# Altium schematic symbol library Transistor_FET.SchLib: 509 symbols (part 3 of 4)
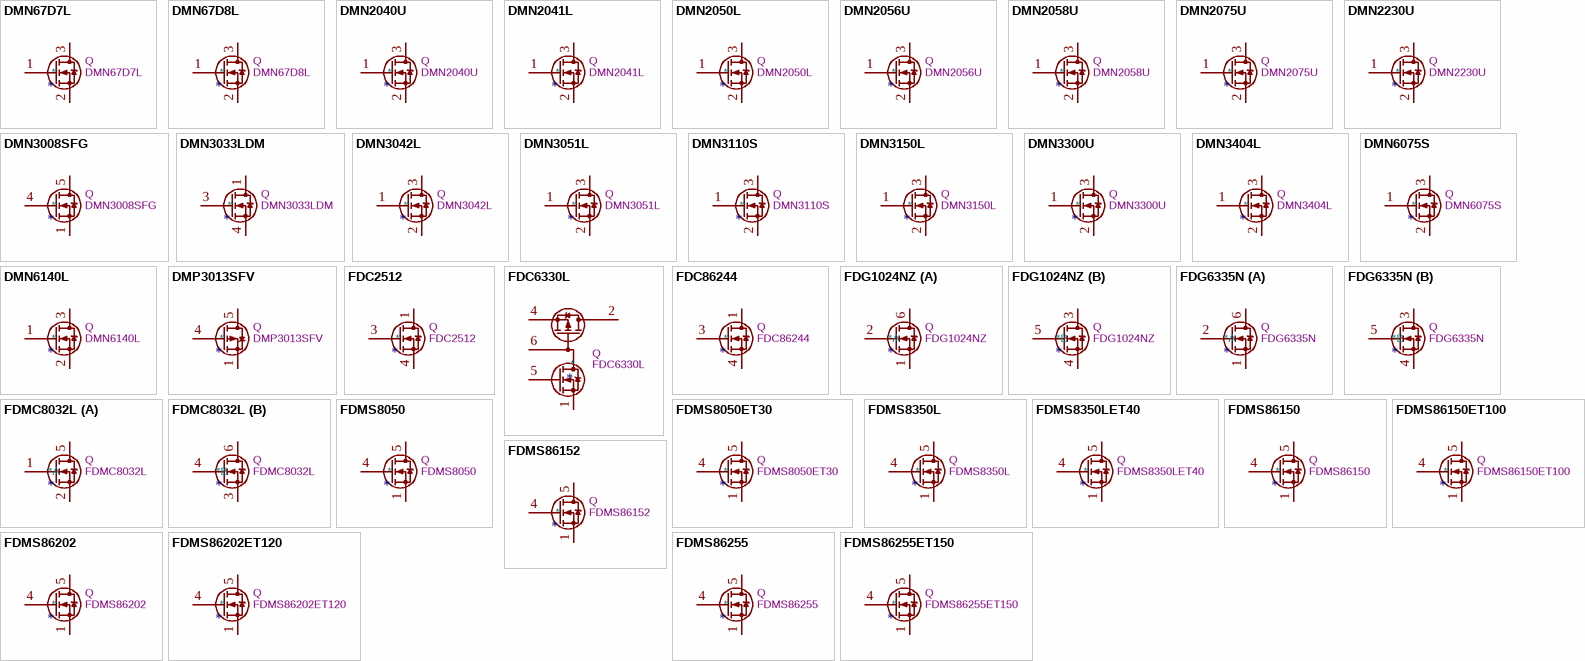
[diagram p15: symbols DMN67D7L to FDMS86255ET150]

## FDMS86255
designator *  value FDMS86255  Reference: Q
ki_keywords: shielded-gate-powertrench-MOSFET MOSFET fairchild; ki_description: 10A Id, 150V Vds, N-Channel Shielded Gate PowerTrench MOSFET, 12.4mOhm Ron, 63nC Qgmax, -55 to 150 °C, 5x6mm SON8; ki_fp_filters: TDSON*; Footprint: Package_TO_SOT_SMD:TDSON-8-1; Datasheet: https://www.onsemi.com/pub/Collateral/FDMS86255-D.pdf
pins: 1 S, 2 S hidden, 3 S hidden, 4 G, 5 D

## FDMS86255ET150
designator *  value FDMS86255ET150  Reference: Q
ki_keywords: shielded-gate-powertrench MOSFET fairchild; ki_description: 10A Id, 150V Vds, N-Channel Shielded Gate PowerTrench MOSFET, 12.4mOhm Ron, 63nC Qgmax, -55 to 175 °C, 5x6mm SON8; ki_fp_filters: TDSON*; Footprint: Package_TO_SOT_SMD:TDSON-8-1; Datasheet: https://www.onsemi.com/pub/Collateral/FDMS86255ET150-D.pdf
pins: 1 S, 2 S hidden, 3 S hidden, 4 G, 5 D

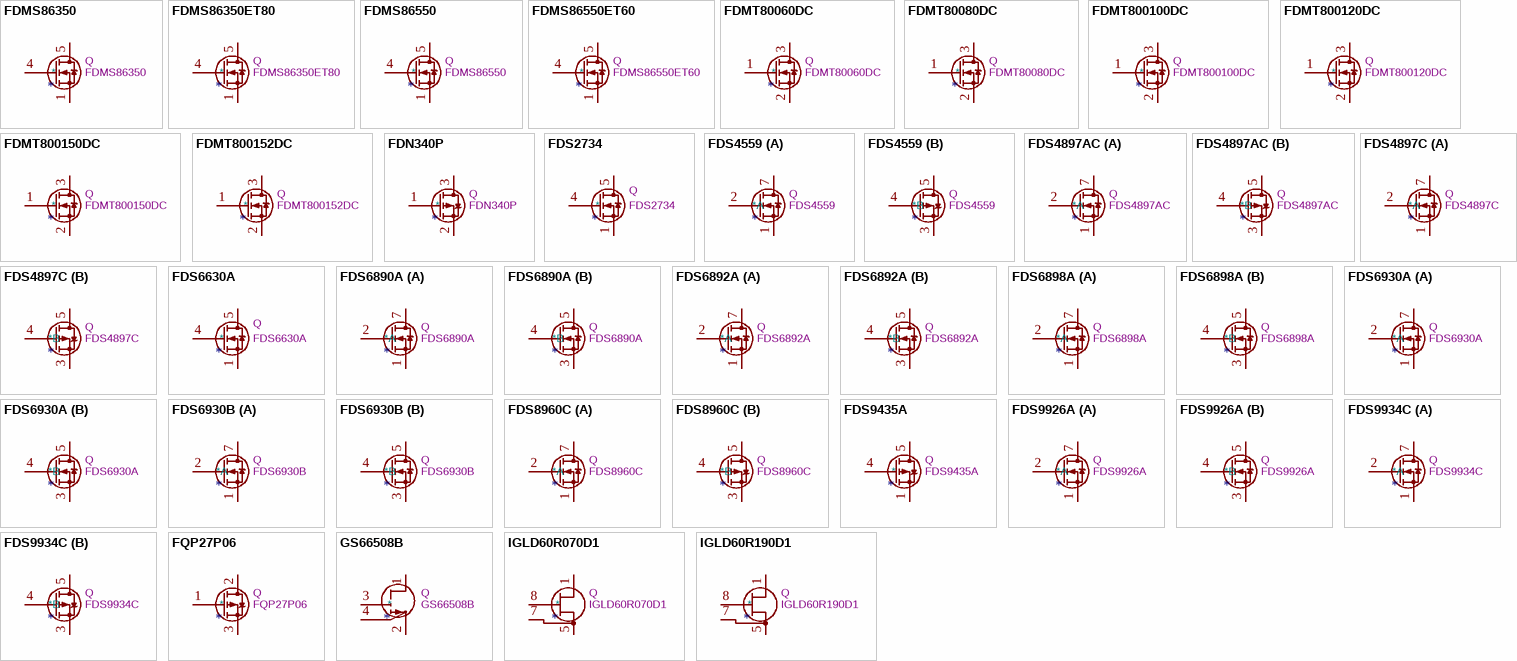
[diagram p7: symbols FDMS86350 to IGLD60R190D1]

## FDMS86350
designator *  value FDMS86350  Reference: Q
ki_keywords: powertrench MOSFET fairchild; ki_description: 25A Id, 80V Vds, N-Channel PowerTrench MOSFET, 2.4mOhm Ron, 155nC Qgmax, -55 to 150 °C, 5x6mm SON8; ki_fp_filters: TDSON*; Footprint: Package_TO_SOT_SMD:TDSON-8-1; Datasheet: https://www.onsemi.com/pub/Collateral/FDMS86350-D.PDF
pins: 1 S, 2 S hidden, 3 S hidden, 4 G, 5 D

## FDMS86350ET80
designator *  value FDMS86350ET80  Reference: Q
ki_keywords: powertrench MOSFET fairchild; ki_description: 25A Id, 80V Vds, N-Channel PowerTrench MOSFET, 2.4mOhm Ron, 155nC Qgmax, -55 to 175 °C, 5x6mm SON8; ki_fp_filters: TDSON*; Footprint: Package_TO_SOT_SMD:TDSON-8-1; Datasheet: https://www.onsemi.com/pub/Collateral/FDMS86350ET80-D.pdf
pins: 1 S, 2 S hidden, 3 S hidden, 4 G, 5 D

## FDMS86550
designator *  value FDMS86550  Reference: Q
ki_keywords: powertrench MOSFET fairchild; ki_description: 32A Id, 60V Vds, N-Channel PowerTrench MOSFET, 1.65mOhm Ron, 154nC Qgmax, -55 to 150 °C, 5x6mm SON8; ki_fp_filters: TDSON*; Footprint: Package_TO_SOT_SMD:TDSON-8-1; Datasheet: https://www.onsemi.com/pub/Collateral/FDMS86550-D.pdf
pins: 1 S, 2 S hidden, 3 S hidden, 4 G, 5 D

## FDMS86550ET60
designator *  value FDMS86550ET60  Reference: Q
ki_keywords: powertrench MOSFET fairchild; ki_description: 32A Id, 60V Vds, N-Channel PowerTrench MOSFET, 1.65mOhm Ron, 154nC Qgmax, -55 to 175 °C, 5x6mm SON8; ki_fp_filters: TDSON*; Footprint: Package_TO_SOT_SMD:TDSON-8-1; Datasheet: https://www.onsemi.com/pub/Collateral/FDMS86550ET60-D.pdf
pins: 1 S, 2 S hidden, 3 S hidden, 4 G, 5 D

## FDMT80060DC
designator *  value FDMT80060DC  Reference: Q
ki_keywords: PowerTrench Power MOSFET N-MOS; ki_description: 43A Id, 60V Vds, PowerTrench N-Channel Power MOSFET, 6.9mOhm Ron, Qg (typ) 7.9nC 8x8mm MLP; ki_fp_filters: PQFN*8x8*; Footprint: Package_TO_SOT_SMD:PQFN_8x8; Datasheet: https://www.onsemi.com/pub/Collateral/FDMT80060DC-D.pdf
pins: 1 G, 2 S, 3 D

## FDMT80080DC
designator *  value FDMT80080DC  Reference: Q
ki_keywords: dual-cool-powertrench MOSFET fairchild; ki_description: 36A Id, 80V Vds, N-Channel Dual Cool PowerTrench MOSFET, 1.35mOhm Ron, 273nC Qgmax, -55 to 150 °C, 8x8mm MLP; ki_fp_filters: PQFN*8x8*; Footprint: Package_TO_SOT_SMD:PQFN_8x8; Datasheet: https://www.onsemi.com/pub/Collateral/FDMT80080DC-D.pdf
pins: 1 G, 2 S, 3 D

## FDMT800100DC
designator *  value FDMT800100DC  Reference: Q
ki_keywords: dual-cool-powertrench MOSFET fairchild; ki_description: 24A Id, 100V Vds, N-Channel Dual Cool PowerTrench MOSFET, 2.95mOhm Ron, 111nC Qgmax, -55 to 150 °C, 8x8mm MLP; ki_fp_filters: PQFN*8x8*; Footprint: Package_TO_SOT_SMD:PQFN_8x8; Datasheet: https://www.onsemi.com/pub/Collateral/FDMT800100DC-D.pdf
pins: 1 G, 2 S, 3 D

## FDMT800120DC
designator *  value FDMT800120DC  Reference: Q
ki_keywords: dual-cool-powertrench MOSFET fairchild; ki_description: 20A Id, 120V Vds, N-Channel Dual cool 88 PowerTrench MOSFET, 4.2mOhm Ron, 107nC Qgmax, -55 to 150 °C, 8x8mm MLP; ki_fp_filters: PQFN*8x8*; Footprint: Package_TO_SOT_SMD:PQFN_8x8; Datasheet: https://www.onsemi.com/pub/Collateral/FDMT800120DC-D.pdf
pins: 1 G, 2 S, 3 D

## FDMT800150DC
designator *  value FDMT800150DC  Reference: Q
ki_keywords: dual-cool-powertrench MOSFET fairchild; ki_description: 15A Id, 150V Vds, N-Channel Dual cool PowerTrench MOSFET, 6.5mOhm Ron, 108nC Qgmax, -55 to 150 °C, 8x8mm MLP; ki_fp_filters: PQFN*8x8*; Footprint: Package_TO_SOT_SMD:PQFN_8x8; Datasheet: https://www.onsemi.com/pub/Collateral/FDMT800150DC-D.pdf
pins: 1 G, 2 S, 3 D

## FDMT800152DC
designator *  value FDMT800152DC  Reference: Q
ki_keywords: dual-cool-powertrench MOSFET fairchild; ki_description: 13A Id, 150V Vds, N-Channel Dual Cool PowerTrench MOSFET, 9.0mOhm Ron, 83nC Qgmax, -55 to 150 °C, 8x8mm MLP; ki_fp_filters: PQFN*8x8*; Footprint: Package_TO_SOT_SMD:PQFN_8x8; Datasheet: https://www.onsemi.com/pub/Collateral/FDMT800152DC-D.pdf
pins: 1 G, 2 S, 3 D

## FDN340P
designator *  value FDN340P  Reference: Q
ki_keywords: P-Channel MOSFET; ki_description: 2A Id, 20V Vds, P-Channel MOSFET, 70mOhm Ron, SOT-23; ki_fp_filters: SOT?23*; Footprint: Package_TO_SOT_SMD:SOT-23; Datasheet: https://www.onsemi.com/pub/Collateral/FDN340P-D.PDF
pins: 1 G, 2 S, 3 D

## FDS2734
designator *  value FDS2734  Reference: Q
ki_keywords: N-Channel MOSFET; ki_description: 3.0A Id, 250V Vds, N-Channel MOSFET, 117mOhm Ron, SOIC-8; ki_fp_filters: SOIC*3.9x4.9mm*P1.27mm*; Footprint: Package_SO:SOIC-8_3.9x4.9mm_P1.27mm; Datasheet: http://www.onsemi.com/pub/Collateral/FDS2734-D.pdf
pins: 1 S, 2 S hidden, 3 S hidden, 4 G, 5 D, 6 D hidden, 7 D hidden, 8 D hidden

## FDS4559
designator *  value FDS4559  Reference: Q
ki_keywords: Dual N-Channel P-Channel MOSFET; ki_description: 4.5A Id, 60V Vds, Dual N and P Channel MOSFET, 55mOhm Ron, 10V Vgs, SO8L; ki_fp_filters: SOIC*3.9x4.9mm*P1.27mm*; Footprint: Package_SO:SOIC-8_3.9x4.9mm_P1.27mm; Datasheet: https://www.onsemi.com/pub/Collateral/FDS4559-D.PDF
part A pins: 1 S, 2 G, 7 D, 8 D hidden
part B pins: 3 1, 4 G, 5 D, 6 D hidden

## FDS4897AC
designator *  value FDS4897AC  Reference: Q
ki_keywords: Dual N-Channel P-Channel MOSFET; ki_description: 6.1A Id, 40V Vds, Dual N and P Channel MOSFET, 26mOhm Ron, 10V Vgs, SO8L; ki_fp_filters: SOIC*3.9x4.9mm*P1.27mm*; Footprint: Package_SO:SOIC-8_3.9x4.9mm_P1.27mm; Datasheet: https://www.onsemi.com/pub/Collateral/FDS4897AC-D.pdf
part A pins: 1 S, 2 G, 7 D, 8 D hidden
part B pins: 3 1, 4 G, 5 D, 6 D hidden

## FDS4897C
designator *  value FDS4897C  Reference: Q
ki_keywords: Dual N-Channel P-Channel MOSFET; ki_description: 6.2A Id, 40V Vds, Dual N and P Channel MOSFET, 29mOhm Ron, 10V Vgs, SO8L; ki_fp_filters: SOIC*3.9x4.9mm*P1.27mm*; Footprint: Package_SO:SOIC-8_3.9x4.9mm_P1.27mm; Datasheet: https://www.onsemi.com/pub/Collateral/FDS4897C-D.pdf
part A pins: 1 S, 2 G, 7 D, 8 D hidden
part B pins: 3 1, 4 G, 5 D, 6 D hidden

## FDS6630A
designator *  value FDS6630A  Reference: Q
ki_keywords: N-Channel MOSFET; ki_description: 6.5A Id, 30V Vds, N-Channel MOSFET, 38mOhm Ron, SOIC-8; ki_fp_filters: SOIC*3.9x4.9mm*P1.27mm*; Footprint: Package_SO:SOIC-8_3.9x4.9mm_P1.27mm; Datasheet: http://www.onsemi.com/pub/Collateral/FDS6630A-D.pdf
pins: 1 S, 2 S hidden, 3 S hidden, 4 G, 5 D, 6 D hidden, 7 D hidden, 8 D hidden

## FDS6890A
designator *  value FDS6890A  Reference: Q
ki_keywords: Dual N-Channel MOSFET; ki_description: 7.5A Id, 20V Vds, Dual N-Channel MOSFET, 18mOhm Ron, SO-8; ki_fp_filters: SOIC*3.9x4.9mm*P1.27mm*; Footprint: Package_SO:SOIC-8_3.9x4.9mm_P1.27mm; Datasheet: https://www.onsemi.com/pub/Collateral/FDS6890A-D.PDF
part A pins: 1 S1, 2 G1, 7 D1, 8 D1 hidden
part B pins: 3 S2, 4 G2, 5 D2, 6 D2 hidden

## FDS6892A
designator *  value FDS6892A  Reference: Q
ki_keywords: Dual N-Channel MOSFET Low Gate Charge; ki_description: 7.5A Id, 20V Vds, Dual N-Channel MOSFET PWM Optimized, 18mOhm Ron, SO-8; ki_fp_filters: SOIC*3.9x4.9mm*P1.27mm*; Footprint: Package_SO:SOIC-8_3.9x4.9mm_P1.27mm; Datasheet: https://www.onsemi.com/pub/Collateral/FDS6892A-D.pdf
part A pins: 1 S1, 2 G1, 7 D1, 8 D1 hidden
part B pins: 3 S2, 4 G2, 5 D2, 6 D2 hidden

## FDS6898A
designator *  value FDS6898A  Reference: Q
ki_keywords: Dual N-Channel MOSFET; ki_description: 9.4A Id, 20V Vds, Dual N-Channel MOSFET, 14mOhm Ron, SO-8; ki_fp_filters: SOIC*3.9x4.9mm*P1.27mm*; Footprint: Package_SO:SOIC-8_3.9x4.9mm_P1.27mm; Datasheet: https://www.onsemi.com/pub/Collateral/FDS6898A-D.PDF
part A pins: 1 S1, 2 G1, 7 D1, 8 D1 hidden
part B pins: 3 S2, 4 G2, 5 D2, 6 D2 hidden

## FDS6930A
designator *  value FDS6930A  Reference: Q
ki_keywords: Dual N-Channel MOSFET; ki_description: 5.5A Id, 30V Vds, Dual N-Channel Logic Level MOSFET, 40mOhm Ron, SO-8; ki_fp_filters: SOIC*3.9x4.9mm*P1.27mm*; Footprint: Package_SO:SOIC-8_3.9x4.9mm_P1.27mm; Datasheet: http://www.onsemi.com/pub/Collateral/FDS6930A-D.PDF
part A pins: 1 S1, 2 G1, 7 D1, 8 D1 hidden
part B pins: 3 S2, 4 G2, 5 D2, 6 D2 hidden

## FDS6930B
designator *  value FDS6930B  Reference: Q
ki_keywords: Dual N-Channel MOSFET; ki_description: 5.5A Id, 30V Vds, Dual N-Channel Logic Level MOSFET, 38mOhm Ron, SO-8; ki_fp_filters: SOIC*3.9x4.9mm*P1.27mm*; Footprint: Package_SO:SOIC-8_3.9x4.9mm_P1.27mm; Datasheet: http://www.onsemi.com/pub/Collateral/FDS6930B-D.PDF
part A pins: 1 S1, 2 G1, 7 D1, 8 D1 hidden
part B pins: 3 S2, 4 G2, 5 D2, 6 D2 hidden

## FDS8960C
designator *  value FDS8960C  Reference: Q
ki_keywords: Dual N-Channel P-Channel MOSFET; ki_description: 7A Id, 35V Vds, Dual N and P Channel MOSFET, 24mOhm Ron, 10V Vgs, SO8L; ki_fp_filters: SOIC*3.9x4.9mm*P1.27mm*; Footprint: Package_SO:SOIC-8_3.9x4.9mm_P1.27mm; Datasheet: https://www.mouser.fr/datasheet/2/308/FDS8960C-D-1808807.pdf
part A pins: 1 S, 2 G, 7 D, 8 D hidden
part B pins: 3 1, 4 G, 5 D, 6 D hidden

## FDS9435A
designator *  value FDS9435A  Reference: Q
ki_keywords: P-Channel MOSFET; ki_description: -5.3A Id, -30V Vds, P-Channel MOSFET, 50mOhm Ron, SO-8; ki_fp_filters: SOIC*3.9x4.9mm*P1.27mm*; Footprint: Package_SO:SOIC-8_3.9x4.9mm_P1.27mm; Datasheet: https://www.onsemi.com/pub/Collateral/FDS9435A-D.PDF
pins: 1 S, 2 S hidden, 3 S hidden, 4 G, 5 D, 6 D hidden, 7 D hidden, 8 D hidden

## FDS9926A
designator *  value FDS9926A  Reference: Q
ki_keywords: Dual N-Channel MOSFET; ki_description: 6.5A Id, 20V Vds, Dual N-Channel MOSFET, 30mOhm Ron, SO-8; ki_fp_filters: SOIC*3.9x4.9mm*P1.27mm*; Footprint: Package_SO:SOIC-8_3.9x4.9mm_P1.27mm; Datasheet: https://www.onsemi.com/pub/Collateral/FDS9926A-D.pdf
part A pins: 1 S1, 2 G1, 7 D1, 8 D1 hidden
part B pins: 3 S2, 4 G2, 5 D2, 6 D2 hidden

## FDS9934C
designator *  value FDS9934C  Reference: Q
ki_keywords: Dual N-Channel P-Channel MOSFET; ki_description: 6.5A Id, 20V Vds, Dual N and P Channel MOSFET, 30mOhm Ron, 4.5V Vgs, SO8L; ki_fp_filters: SOIC*3.9x4.9mm*P1.27mm*; Footprint: Package_SO:SOIC-8_3.9x4.9mm_P1.27mm; Datasheet: https://www.onsemi.com/pub/Collateral/FDS9934C-D.pdf
part A pins: 1 S, 2 G, 7 D, 8 D hidden
part B pins: 3 1, 4 G, 5 D, 6 D hidden

## FQP27P06
designator *  value FQP27P06  Reference: Q
ki_keywords: QFET P-Channel MOSFET; ki_description: -27A Id, -60V Vds, QFET P-Channel MOSFET, TO-220; ki_fp_filters: TO?220*; Footprint: Package_TO_SOT_THT:TO-220-3_Vertical; Datasheet: https://www.onsemi.com/pub/Collateral/FQP27P06-D.PDF
pins: 1 G, 2 D, 3 S

## GS66508B
designator *  value GS66508B  Reference: Q
ki_keywords: gan hemt bottom side cooled 650v enhancement mode 30a Id; ki_description: Bottom-side cooled 650 V E-mode GaN transistor, 30A Id, GaN_PX; ki_fp_filters: GaN?Systems?GaNPX*7x8.4mm*; Footprint: Transistor_Power:GaN_Systems_GaNPX-4_7x8.4mm; Datasheet: https://gansystems.com/wp-content/uploads/2020/04/GS66508B-DS-Rev-200402.pdf
pins: 1 D, 2 S, 3 G, 4 SS

## IGLD60R070D1
designator *  value IGLD60R070D1  Reference: Q
ki_keywords: N-Channel GaN MOSFET; ki_description: 15A Id, 600V Vds, 70mOhm, N-Channel GaN MOSFET, LSON-8; ki_fp_filters: Infineon*PG*LSON*1*; Footprint: Package_SON:Infineon_PG-LSON-8-1; Datasheet: https://www.infineon.com/dgdl/Infineon-IGLD60R070D1-DataSheet-v02_00-EN.pdf?fileId=5546d46265f064ff016685f03f056511
pins: 1 D, 2 D hidden, 3 D hidden, 4 D hidden, 5 S, 6 S hidden, 7 SS, 8 G, 9 S hidden

## IGLD60R190D1
designator *  value IGLD60R190D1  Reference: Q
ki_keywords: N-Channel GaN MOSFET; ki_description: 10A Id, 600V Vds, 190mOhm, N-Channel GaN MOSFET, LSON-8; ki_fp_filters: Infineon*PG*LSON*1*; Footprint: Package_SON:Infineon_PG-LSON-8-1; Datasheet: https://www.infineon.com/dgdl/Infineon-IGLD60R190D1-DataSheet-v02_00-EN.pdf?fileId=5546d46269e1c019016a6d78ff5e2aba
pins: 1 D, 2 D hidden, 3 D hidden, 4 D hidden, 5 S, 6 S hidden, 7 SS, 8 G, 9 S hidden

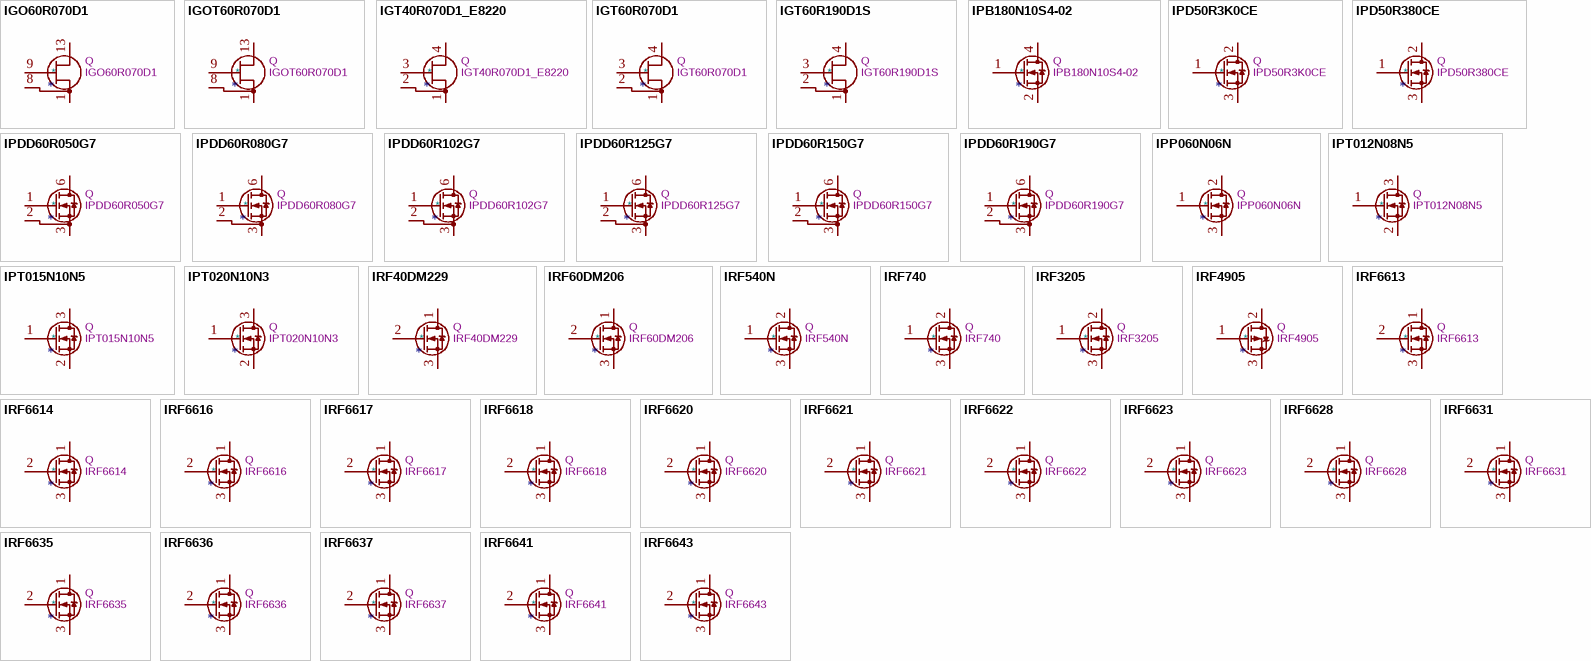
[diagram p8: symbols IGO60R070D1 to IRF6643]

## IGO60R070D1
designator *  value IGO60R070D1  Reference: Q
ki_keywords: N-Channel GaN MOSFET; ki_description: 31A Id, 600V Vds, 70mOhm, N-Channel GaN MOSFET, PD-DSO-20-85; ki_fp_filters: Infineon*PG*DSO*85*; Footprint: Package_SO:Infineon_PG-DSO-20-85; Datasheet: https://www.infineon.com/dgdl/Infineon-IGO60R070D1-DataSheet-v02_01-EN.pdf?fileId=5546d46265f064ff016685f053216514
pins: 1 S, 2 S hidden, 3 S hidden, 4 S hidden, 5 S hidden, 6 S hidden, 7 S hidden, 8 SS, 9 G, 10 G hidden, 13 D, 14 D hidden, 15 D hidden, 16 D hidden, 17 D hidden, 18 D hidden, 21 S hidden

## IGOT60R070D1
designator *  value IGOT60R070D1  Reference: Q
ki_keywords: N-Channel GaN MOSFET; ki_description: 31A Id, 600V Vds, 70mOhm, N-Channel GaN MOSFET, PD-DSO-20-87; ki_fp_filters: Infineon*PG*DSO*87*; Footprint: Package_SO:Infineon_PG-DSO-20-87; Datasheet: https://www.infineon.com/dgdl/Infineon-IGOT60R070D1-DataSheet-v02_11-EN.pdf?fileId=5546d46265f064ff016685fa65066523
pins: 1 S, 2 S hidden, 3 S hidden, 4 S hidden, 5 S hidden, 6 S hidden, 7 S hidden, 8 SS, 9 G, 10 G hidden, 13 D, 14 D hidden, 15 D hidden, 16 D hidden, 17 D hidden, 18 D hidden

## IGT40R070D1_E8220
designator *  value IGT40R070D1_E8220  Reference: Q
ki_keywords: N-Channel GaN MOSFET; ki_description: 31A Id, 400V Vds, 70mOhm, N-Channel GaN MOSFET, HSOF-8; ki_fp_filters: Infineon*PG*HSOF*3*; Footprint: Package_TO_SOT_SMD:Infineon_PG-HSOF-8-3_ThermalVias; Datasheet: https://www.infineon.com/dgdl/Infineon-IGT40R070D1%20E8220-DataSheet-v02_00-EN.pdf?fileId=5546d4626afcd350016b269dd8f34ec4
pins: 1 S, 2 SS, 3 G, 4 D

## IGT60R070D1
designator *  value IGT60R070D1  Reference: Q
ki_keywords: N-Channel GaN MOSFET; ki_description: 31A Id, 600V Vds, 70mOhm, N-Channel GaN MOSFET, HSOF-8; ki_fp_filters: Infineon*PG*HSOF*3*; Footprint: Package_TO_SOT_SMD:Infineon_PG-HSOF-8-3_ThermalVias; Datasheet: https://www.infineon.com/dgdl/Infineon-IGT60R070D1-DataSheet-v02_01-EN.pdf?fileId=5546d46265f064ff016686028dd56526
pins: 1 S, 2 SS, 3 G, 4 D

## IGT60R190D1S
designator *  value IGT60R190D1S  Reference: Q
ki_keywords: N-Channel GaN MOSFET; ki_description: 12.5A Id, 600V Vds, 190mOhm, N-Channel GaN MOSFET, HSOF-8; ki_fp_filters: Infineon*PG*HSOF*3*; Footprint: Package_TO_SOT_SMD:Infineon_PG-HSOF-8-3_ThermalVias; Datasheet: https://www.infineon.com/dgdl/Infineon-IGT60R190D1S-DataSheet-v03_01-EN.pdf?fileId=5546d46265f064ff016685fa29796520
pins: 1 S, 2 SS, 3 G, 4 D

## IPB180N10S4-02
designator *  value IPB180N10S4-02  Reference: Q
ki_keywords: OptiMOS-T2 Power MOSFET N-MOS; ki_description: 180A Id, 100V Vds, OptiMOS-T2 N-Channel Power MOSFET, 2.5mOhm Ron, Qg (typ) 156nC, TO-263-6; ki_fp_filters: TO?263?6*; Footprint: Package_TO_SOT_SMD:TO-263-6; Datasheet: https://www.infineon.com/dgdl/Infineon-IPB180N10S4_02-DS-v01_00-en.pdf?fileId=db3a30433d1d0bbe013d2129cf8a2f88
pins: 1 G, 2 S, 3 S hidden, 4 D, 5 S hidden, 6 S hidden, 7 S hidden

## IPD50R3K0CE
designator *  value IPD50R3K0CE  Reference: Q
ki_keywords: CoolMOS Power MOSFET N-MOS; ki_description: 1.7A Id, 500V Vds, CoolMOS N-Channel Power MOSFET, 3Ohm Ron, 4.3nC Qg (typ), TO-252-2; ki_fp_filters: TO?252*; Footprint: Package_TO_SOT_SMD:TO-252-2; Datasheet: https://www.infineon.com/dgdl/IPx50R3K0CE_2_0.pdf?folderId=db3a3043163797a6011637d4bae7003b&fileId=db3a304339dcf4b10139e7e9ff592ce4
pins: 1 G, 2 D, 3 S

## IPD50R380CE
designator *  value IPD50R380CE  Reference: Q
ki_keywords: CoolMOS Power MOSFET N-MOS; ki_description: 14.1A Id, 500V Vds, CoolMOS N-Channel Power MOSFET, 380mOhm Ron, 24.8nC Qg (typ), TO-252-2; ki_fp_filters: TO?252*; Footprint: Package_TO_SOT_SMD:TO-252-2; Datasheet: https://www.infineon.com/dgdl/Infineon-IPD50R380CE-DS-v02_01-en.pdf?fileId=db3a30433ecb86d4013ed0a2ef580f38
pins: 1 G, 2 D, 3 S

## IPDD60R050G7
designator *  value IPDD60R050G7  Reference: Q
ki_keywords: N-Channel MOSFET; ki_description: 47A Id, 600V Vds, 50mOhm, N-Channel MOSFET, CoolMOS G7, PG-HDSOP-10-1 (DDPAK); ki_fp_filters: Infineon*PG*HDSOP*; Footprint: Package_TO_SOT_SMD:Infineon_PG-HDSOP-10-1; Datasheet: https://www.infineon.com/dgdl/Infineon-IPDD60R050G7-DS-v02_00-EN.pdf?fileId=5546d4626102d35a0161707eb2f97810
pins: 1 G, 2 DS, 3 PS, 4 PS hidden, 5 PS hidden, 6 D, 7 D hidden, 8 D hidden, 9 D hidden, 10 D hidden

## IPDD60R080G7
designator *  value IPDD60R080G7  Reference: Q
ki_keywords: N-Channel MOSFET; ki_description: 29A Id, 600V Vds, 80mOhm, N-Channel MOSFET, CoolMOS G7, PG-HDSOP-10-1 (DDPAK); ki_fp_filters: Infineon*PG*HDSOP*; Footprint: Package_TO_SOT_SMD:Infineon_PG-HDSOP-10-1; Datasheet: https://www.infineon.com/dgdl/Infineon-IPDD60R080G7-DS-v02_00-EN.pdf?fileId=5546d4626102d35a016170882f757a07
pins: 1 G, 2 DS, 3 PS, 4 PS hidden, 5 PS hidden, 6 D, 7 D hidden, 8 D hidden, 9 D hidden, 10 D hidden

## IPDD60R102G7
designator *  value IPDD60R102G7  Reference: Q
ki_keywords: N-Channel MOSFET; ki_description: 23A Id, 600V Vds, 102mOhm, N-Channel MOSFET, CoolMOS G7, PG-HDSOP-10-1 (DDPAK); ki_fp_filters: Infineon*PG*HDSOP*; Footprint: Package_TO_SOT_SMD:Infineon_PG-HDSOP-10-1; Datasheet: https://www.infineon.com/dgdl/Infineon-IPDD60R102G7-DS-v02_00-EN.pdf?fileId=5546d4626102d35a01617087ee7379ed
pins: 1 G, 2 DS, 3 PS, 4 PS hidden, 5 PS hidden, 6 D, 7 D hidden, 8 D hidden, 9 D hidden, 10 D hidden

## IPDD60R125G7
designator *  value IPDD60R125G7  Reference: Q
ki_keywords: N-Channel MOSFET; ki_description: 20A Id, 600V Vds, 125mOhm, N-Channel MOSFET, CoolMOS G7, PG-HDSOP-10-1 (DDPAK); ki_fp_filters: Infineon*PG*HDSOP*; Footprint: Package_TO_SOT_SMD:Infineon_PG-HDSOP-10-1; Datasheet: https://www.infineon.com/dgdl/Infineon-IPDD60R125G7-DS-v02_00-EN.pdf?fileId=5546d4626102d35a0161706cba27778f
pins: 1 G, 2 DS, 3 PS, 4 PS hidden, 5 PS hidden, 6 D, 7 D hidden, 8 D hidden, 9 D hidden, 10 D hidden

## IPDD60R150G7
designator *  value IPDD60R150G7  Reference: Q
ki_keywords: N-Channel MOSFET; ki_description: 16A Id, 600V Vds, 150mOhm, N-Channel MOSFET, CoolMOS G7, PG-HDSOP-10-1 (DDPAK); ki_fp_filters: Infineon*PG*HDSOP*; Footprint: Package_TO_SOT_SMD:Infineon_PG-HDSOP-10-1; Datasheet: https://www.infineon.com/dgdl/Infineon-IPDD60R150G7-DS-v02_00-EN.pdf?fileId=5546d4626102d35a016170806aa57863
pins: 1 G, 2 DS, 3 PS, 4 PS hidden, 5 PS hidden, 6 D, 7 D hidden, 8 D hidden, 9 D hidden, 10 D hidden

## IPDD60R190G7
designator *  value IPDD60R190G7  Reference: Q
ki_keywords: N-Channel MOSFET; ki_description: 13A Id, 600V Vds, 190mOhm, N-Channel MOSFET, CoolMOS G7, PG-HDSOP-10-1 (DDPAK); ki_fp_filters: Infineon*PG*HDSOP*; Footprint: Package_TO_SOT_SMD:Infineon_PG-HDSOP-10-1; Datasheet: https://www.infineon.com/dgdl/Infineon-IPDD60R190G7-DS-v02_00-EN.pdf?fileId=5546d4626102d35a01617087dc0f79ea
pins: 1 G, 2 DS, 3 PS, 4 PS hidden, 5 PS hidden, 6 D, 7 D hidden, 8 D hidden, 9 D hidden, 10 D hidden

## IPP060N06N
designator *  value IPP060N06N  Reference: Q
ki_keywords: N-Channel Power MOSFET Infineon; ki_description: 45A Id, 60V Vds, Single N-Channel Power MOSFET, 6mOhm Ron, TO-220; ki_fp_filters: TO?220*; Footprint: Package_TO_SOT_THT:TO-220-3_Vertical; Datasheet: https://www.infineon.com/dgdl/Infineon-IPP060N06N-DS-v02_02-en.pdf?fileId=db3a30433727a44301372c06d9d7498a
pins: 1 G, 2 D, 3 S

## IPT012N08N5
designator *  value IPT012N08N5  Reference: Q
ki_keywords: OptiMOS Power MOSFET N-MOS; ki_description: 300A Id, 80V Vds, OptiMOS N-Channel Power MOSFET, 1.2mOhm Ron, Qg (typ) 178.0nC, PG-HSOF-8; ki_fp_filters: Infineon*PG*HSOF*; Footprint: Package_TO_SOT_SMD:Infineon_PG-HSOF-8-1; Datasheet: http://www.infineon.com/dgdl/Infineon-IPT012N08N5-DS-v02_01-EN.pdf?fileId=5546d4624a75e5f1014aca59127a1eb9
pins: 1 G, 2 S, 3 D

## IPT015N10N5
designator *  value IPT015N10N5  Reference: Q
ki_keywords: OptiMOS Power MOSFET N-MOS; ki_description: 300A Id, 100V Vds, OptiMOS N-Channel Power MOSFET, 1.5mOhm Ron, Qg (typ) 169.0nC, PG-HSOF-8; ki_fp_filters: Infineon*PG*HSOF*; Footprint: Package_TO_SOT_SMD:Infineon_PG-HSOF-8-1; Datasheet: http://www.infineon.com/dgdl/Infineon-IPT015N10N5-DS-v02_01-EN.pdf?fileId=5546d4624a75e5f1014ac94680661aff
pins: 1 G, 2 S, 3 D

## IPT020N10N3
designator *  value IPT020N10N3  Reference: Q
ki_keywords: OptiMOS Power MOSFET N-MOS; ki_description: 300A Id, 100V Vds, OptiMOS N-Channel Power MOSFET, 2.0mOhm Ron, Qg (typ) 156.0nC, PG-HSOF-8; ki_fp_filters: Infineon*PG*HSOF*; Footprint: Package_TO_SOT_SMD:Infineon_PG-HSOF-8-1; Datasheet: http://www.infineon.com/dgdl/Infineon-IPT020N10N3-DS-v02_00-en.pdf?fileId=db3a30433e9d5d11013e9e58035b0158
pins: 1 G, 2 S, 3 D

## IRF40DM229
designator *  value IRF40DM229  Reference: Q
ki_keywords: N-Channel MOSFET; ki_description: 159A Id, 40V Vds, 1.85mOhm Rds, N-Channel MOSFET, DirectFET MF; ki_fp_filters: DirectFET*MF*; Footprint: Package_DirectFET:DirectFET_MF; Datasheet: https://www.infineon.com/dgdl/Infineon-IRF40DM229-DS-v02_00-EN.pdf?fileId=5546d462557e6e890155a15c899160ea
pins: 1 D, 2 G, 3 S

## IRF60DM206
designator *  value IRF60DM206  Reference: Q
ki_keywords: N-Channel MOSFET; ki_description: 130A Id, 60V Vds, 2.9mOhm Rds, N-Channel MOSFET, DirectFET ME; ki_fp_filters: DirectFET*ME*; Footprint: Package_DirectFET:DirectFET_ME; Datasheet: https://www.infineon.com/dgdl/irf60dm206.pdf?fileId=5546d462533600a4015355e433aa19ca
pins: 1 D, 2 G, 3 S

## IRF540N
designator *  value IRF540N  Reference: Q
ki_keywords: HEXFET N-Channel MOSFET; ki_description: 33A Id, 100V Vds, HEXFET N-Channel MOSFET, TO-220; ki_fp_filters: TO?220*; Footprint: Package_TO_SOT_THT:TO-220-3_Vertical; Datasheet: http://www.irf.com/product-info/datasheets/data/irf540n.pdf
pins: 1 G, 2 D, 3 S

## IRF740
designator *  value IRF740  Reference: Q
ki_keywords: N Channel; ki_description: 10A Id, 400V Vds, N-Channel Power MOSFET, 500mOhm Rds, TO-220AB; ki_fp_filters: TO?220*; Footprint: Package_TO_SOT_THT:TO-220-3_Vertical; Datasheet: http://www.vishay.com/docs/91054/91054.pdf
pins: 1 G, 2 D, 3 S

## IRF3205
designator *  value IRF3205  Reference: Q
ki_keywords: Single N-Channel HEXFET Power MOSFET; ki_description: 110A Id, 55V Vds, Single N-Channel HEXFET Power MOSFET, 8mOhm Ron, TO-220AB; ki_fp_filters: TO?220*; Footprint: Package_TO_SOT_THT:TO-220-3_Vertical; Datasheet: http://www.irf.com/product-info/datasheets/data/irf3205.pdf
pins: 1 G, 2 D, 3 S

## IRF4905
designator *  value IRF4905  Reference: Q
ki_keywords: Single P-Channel HEXFET Power MOSFET; ki_description: -74A Id, -55V Vds, Single P-Channel HEXFET Power MOSFET, 20mOhm Ron, TO-220AB; ki_fp_filters: TO?220*; Footprint: Package_TO_SOT_THT:TO-220-3_Vertical; Datasheet: http://www.infineon.com/dgdl/irf4905.pdf?fileId=5546d462533600a4015355e32165197c
pins: 1 G, 2 D, 3 S

## IRF6613
designator *  value IRF6613  Reference: Q
ki_keywords: N-Channel MOSFET; ki_description: 150A Id, 40V Vds, 3.4mOhm Rds, N-Channel MOSFET, DirectFET MT; ki_fp_filters: DirectFET*MT*; Footprint: Package_DirectFET:DirectFET_MT; Datasheet: https://www.infineon.com/dgdl/irf6613pbf.pdf?fileId=5546d462533600a4015355e82b9b1a0d
pins: 1 D, 2 G, 3 S

## IRF6614
designator *  value IRF6614  Reference: Q
ki_keywords: N-Channel MOSFET; ki_description: 12.7A Id, 40V Vds, 8.3mOhm Rds, N-Channel MOSFET, DirectFET ST; ki_fp_filters: DirectFET*ST*; Footprint: Package_DirectFET:DirectFET_ST; Datasheet: https://www.infineon.com/dgdl/irf6614pbf.pdf?fileId=5546d462533600a4015355e8346c1a0f
pins: 1 D, 2 G, 3 S

## IRF6616
designator *  value IRF6616  Reference: Q
ki_keywords: N-Channel MOSFET; ki_description: 19A Id, 40V Vds, 5mOhm Rds, N-Channel MOSFET, DirectFET MX; ki_fp_filters: DirectFET*MX*; Footprint: Package_DirectFET:DirectFET_MX; Datasheet: https://www.infineon.com/dgdl/irf6616pbf.pdf?fileId=5546d462533600a4015355e843461a13
pins: 1 D, 2 G, 3 S

## IRF6617
designator *  value IRF6617  Reference: Q
ki_keywords: N-Channel MOSFET; ki_description: 55A Id, 30V Vds, 8.1mOhm Rds, N-Channel MOSFET, DirectFET ST; ki_fp_filters: DirectFET*ST*; Footprint: Package_DirectFET:DirectFET_ST; Datasheet: https://www.infineon.com/dgdl/irf6617pbf.pdf?fileId=5546d462533600a4015355e853f21a17
pins: 1 D, 2 G, 3 S

## IRF6618
designator *  value IRF6618  Reference: Q
ki_keywords: N-Channel MOSFET; ki_description: 170A Id, 30V Vds, 2.2mOhm Rds, N-Channel MOSFET, DirectFET MT; ki_fp_filters: DirectFET*MT*; Footprint: Package_DirectFET:DirectFET_MT; Datasheet: https://www.infineon.com/dgdl/irf6618pbf.pdf?fileId=5546d462533600a4015355e862c21a1b
pins: 1 D, 2 G, 3 S

## IRF6620
designator *  value IRF6620  Reference: Q
ki_keywords: N-Channel MOSFET; ki_description: 150A Id, 20V Vds, 2.7mOhm Rds, N-Channel MOSFET, DirectFET MX; ki_fp_filters: DirectFET*MX*; Footprint: Package_DirectFET:DirectFET_MX; Datasheet: https://www.infineon.com/dgdl/irf6620pbf.pdf?fileId=5546d462533600a4015355e8831d1a23
pins: 1 D, 2 G, 3 S

## IRF6621
designator *  value IRF6621  Reference: Q
ki_keywords: N-Channel MOSFET; ki_description: 12A Id, 30V Vds, 9.1mOhm Rds, N-Channel MOSFET, DirectFET SQ; ki_fp_filters: DirectFET*SQ*; Footprint: Package_DirectFET:DirectFET_SQ; Datasheet: https://www.infineon.com/dgdl/irf6621pbf.pdf?fileId=5546d462533600a4015355e8923b1a27
pins: 1 D, 2 G, 3 S

## IRF6622
designator *  value IRF6622  Reference: Q
ki_keywords: N-Channel MOSFET; ki_description: 15A Id, 25V Vds, 6.3mOhm Rds, N-Channel MOSFET, DirectFET SQ; ki_fp_filters: DirectFET*SQ*; Footprint: Package_DirectFET:DirectFET_SQ; Datasheet: https://www.infineon.com/dgdl/irf6622pbf.pdf?fileId=5546d462533600a4015355e89a3a1a29
pins: 1 D, 2 G, 3 S

## IRF6623
designator *  value IRF6623  Reference: Q
ki_keywords: N-Channel MOSFET; ki_description: 55A Id, 20V Vds, 5.7mOhm Rds, N-Channel MOSFET, DirectFET ST; ki_fp_filters: DirectFET*ST*; Footprint: Package_DirectFET:DirectFET_ST; Datasheet: https://www.infineon.com/dgdl/irf6623pbf.pdf?fileId=5546d462533600a4015355e8aa811a2d
pins: 1 D, 2 G, 3 S

## IRF6628
designator *  value IRF6628  Reference: Q
ki_keywords: N-Channel MOSFET; ki_description: 27A Id, 25V Vds, 2.5mOhm Rds, N-Channel MOSFET, DirectFET MX; ki_fp_filters: DirectFET*MX*; Footprint: Package_DirectFET:DirectFET_MX; Datasheet: https://www.infineon.com/dgdl/irf6628pbf.pdf?fileId=5546d462533600a4015355e8c0d71a33
pins: 1 D, 2 G, 3 S

## IRF6631
designator *  value IRF6631  Reference: Q
ki_keywords: N-Channel MOSFET; ki_description: 13A Id, 30V Vds, 7.8mOhm Rds, N-Channel MOSFET, DirectFET SQ; ki_fp_filters: DirectFET*SQ*; Footprint: Package_DirectFET:DirectFET_SQ; Datasheet: https://www.infineon.com/dgdl/irf6631pbf.pdf?fileId=5546d462533600a4015355e8d0561a37
pins: 1 D, 2 G, 3 S

## IRF6635
designator *  value IRF6635  Reference: Q
ki_keywords: N-Channel MOSFET; ki_description: 32A Id, 30V Vds, 1.8mOhm Rds, N-Channel MOSFET, DirectFET MX; ki_fp_filters: DirectFET*MX*; Footprint: Package_DirectFET:DirectFET_MX; Datasheet: https://www.infineon.com/dgdl/irf6635pbf.pdf?fileId=5546d462533600a4015355e8e7ab1a3d
pins: 1 D, 2 G, 3 S

## IRF6636
designator *  value IRF6636  Reference: Q
ki_keywords: N-Channel MOSFET; ki_description: 18A Id, 20V Vds, 4.5mOhm Rds, N-Channel MOSFET, DirectFET ST; ki_fp_filters: DirectFET*ST*; Footprint: Package_DirectFET:DirectFET_ST; Datasheet: https://www.infineon.com/dgdl/irf6636pbf.pdf?fileId=5546d462533600a4015355e8f7b31a41
pins: 1 D, 2 G, 3 S

## IRF6637
designator *  value IRF6637  Reference: Q
ki_keywords: N-Channel MOSFET; ki_description: 14A Id, 30V Vds, 7.7mOhm Rds, N-Channel MOSFET, DirectFET MP; ki_fp_filters: DirectFET*MP*; Footprint: Package_DirectFET:DirectFET_MP; Datasheet: https://www.infineon.com/dgdl/irf6637pbf.pdf?fileId=5546d462533600a4015355ec1fab1a45
pins: 1 D, 2 G, 3 S

## IRF6641
designator *  value IRF6641  Reference: Q
ki_keywords: N-Channel MOSFET; ki_description: 26A Id, 200V Vds, 59.9mOhm Rds, N-Channel MOSFET, DirectFET MZ; ki_fp_filters: DirectFET*MZ*; Footprint: Package_DirectFET:DirectFET_MZ; Datasheet: https://www.infineon.com/dgdl/irf6641pbf.pdf?fileId=5546d462533600a4015355ec30311a49
pins: 1 D, 2 G, 3 S

## IRF6643
designator *  value IRF6643  Reference: Q
ki_keywords: N-Channel MOSFET; ki_description: 35A Id, 150V Vds, 34.5mOhm Rds, N-Channel MOSFET, DirectFET MZ; ki_fp_filters: DirectFET*MZ*; Footprint: Package_DirectFET:DirectFET_MZ; Datasheet: https://www.infineon.com/dgdl/irf6643pbf.pdf?fileId=5546d462533600a4015355ec388f1a4b
pins: 1 D, 2 G, 3 S

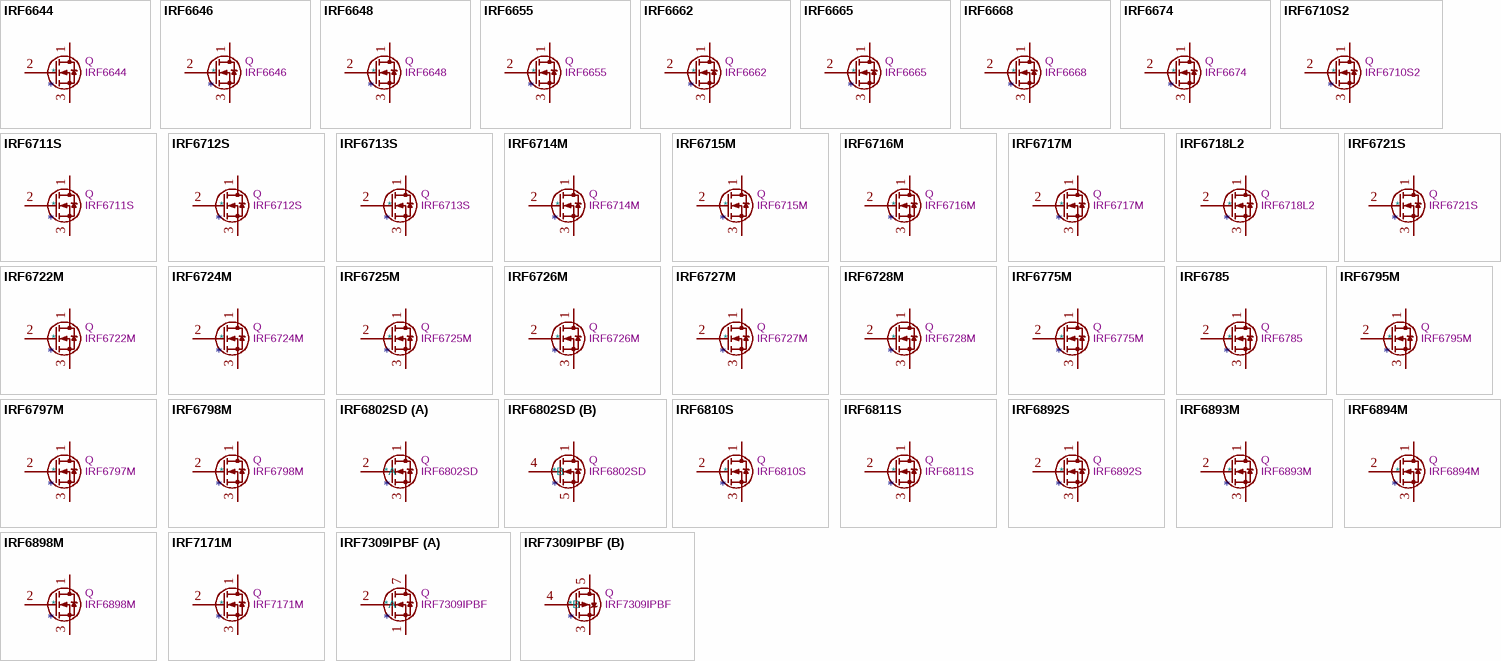
[diagram p9: symbols IRF6644 to IRF7309IPBF]

## IRF6644
designator *  value IRF6644  Reference: Q
ki_keywords: N-Channel MOSFET; ki_description: 57A Id, 100V Vds, 13mOhm Rds, N-Channel MOSFET, DirectFET MN; ki_fp_filters: DirectFET*MN*; Footprint: Package_DirectFET:DirectFET_MN; Datasheet: https://www.infineon.com/dgdl/Infineon-IRF6644-DS-v01_01-EN.pdf?fileId=5546d462533600a4015355ec47ac1a4f
pins: 1 D, 2 G, 3 S

## IRF6646
designator *  value IRF6646  Reference: Q
ki_keywords: N-Channel MOSFET; ki_description: 12A Id, 80V Vds, 9.5mOhm Rds, N-Channel MOSFET, DirectFET MN; ki_fp_filters: DirectFET*MN*; Footprint: Package_DirectFET:DirectFET_MN; Datasheet: https://www.infineon.com/dgdl/irf6646pbf.pdf?fileId=5546d462533600a4015355ec5f071a55
pins: 1 D, 2 G, 3 S

## IRF6648
designator *  value IRF6648  Reference: Q
ki_keywords: N-Channel MOSFET; ki_description: 86A Id, 60V Vds, 7mOhm Rds, N-Channel MOSFET, DirectFET MN; ki_fp_filters: DirectFET*MN*; Footprint: Package_DirectFET:DirectFET_MN; Datasheet: https://www.infineon.com/dgdl/Infineon-IRF6648-DS-v01_02-EN.pdf?fileId=5546d462533600a4015355ec6e561a59
pins: 1 D, 2 G, 3 S

## IRF6655
designator *  value IRF6655  Reference: Q
ki_keywords: N-Channel MOSFET; ki_description: 4.2A Id, 100V Vds, 62mOhm Rds, N-Channel MOSFET, DirectFET SH; ki_fp_filters: DirectFET*SH*; Footprint: Package_DirectFET:DirectFET_SH; Datasheet: https://www.infineon.com/dgdl/irf6655pbf.pdf?fileId=5546d462533600a4015355ec76961a5b
pins: 1 D, 2 G, 3 S

## IRF6662
designator *  value IRF6662  Reference: Q
ki_keywords: N-Channel MOSFET; ki_description: 8.3A Id, 100V Vds, 22mOhm Rds, N-Channel MOSFET, DirectFET MN; ki_fp_filters: DirectFET*MN*; Footprint: Package_DirectFET:DirectFET_MN; Datasheet: https://www.infineon.com/dgdl/irf6662pbf.pdf?fileId=5546d462533600a4015355ec7edc1a5d
pins: 1 D, 2 G, 3 S

## IRF6665
designator *  value IRF6665  Reference: Q
ki_keywords: N-Channel MOSFET; ki_description: 19A Id, 100V Vds, 62mOhm Rds, N-Channel MOSFET, DirectFET SH; ki_fp_filters: DirectFET*SH*; Footprint: Package_DirectFET:DirectFET_SH; Datasheet: https://www.infineon.com/dgdl/irf6665pbf.pdf?fileId=5546d462533600a4015355ec8dcb1a62
pins: 1 D, 2 G, 3 S

## IRF6668
designator *  value IRF6668  Reference: Q
ki_keywords: N-Channel MOSFET; ki_description: 55A Id, 80V Vds, 15mOhm Rds, N-Channel MOSFET, DirectFET MN; ki_fp_filters: DirectFET*MN*; Footprint: Package_DirectFET:DirectFET_MN; Datasheet: https://www.infineon.com/dgdl/irf6668pbf.pdf?fileId=5546d462533600a4015355ec96b91a64
pins: 1 D, 2 G, 3 S

## IRF6674
designator *  value IRF6674  Reference: Q
ki_keywords: N-Channel MOSFET; ki_description: 13.4A Id, 60V Vds, 11mOhm Rds, N-Channel MOSFET, DirectFET MZ; ki_fp_filters: DirectFET*MZ*; Footprint: Package_DirectFET:DirectFET_MZ; Datasheet: https://www.infineon.com/dgdl/irf6674pbf.pdf?fileId=5546d462533600a4015355ec9f0d1a66
pins: 1 D, 2 G, 3 S

## IRF6710S2
designator *  value IRF6710S2  Reference: Q
ki_keywords: N-Channel MOSFET; ki_description: 12A Id, 25V Vds, 5.9mOhm Rds, N-Channel MOSFET, DirectFET S1; ki_fp_filters: DirectFET*S1*; Footprint: Package_DirectFET:DirectFET_S1; Datasheet: https://www.infineon.com/dgdl/irf6710s2pbf.pdf?fileId=5546d462533600a4015355ece3db1a78
pins: 1 D, 2 G, 3 S

## IRF6711S
designator *  value IRF6711S  Reference: Q
ki_keywords: N-Channel MOSFET; ki_description: 19A Id, 25V Vds, 3.8mOhm Rds, N-Channel MOSFET, DirectFET SQ; ki_fp_filters: DirectFET*SQ*; Footprint: Package_DirectFET:DirectFET_SQ; Datasheet: https://www.infineon.com/dgdl/irf6711spbf.pdf?fileId=5546d462533600a4015355ecec0b1a7a
pins: 1 D, 2 G, 3 S

## IRF6712S
designator *  value IRF6712S  Reference: Q
ki_keywords: N-Channel MOSFET; ki_description: 17A Id, 25V Vds, 4.9mOhm Rds, N-Channel MOSFET, DirectFET SQ; ki_fp_filters: DirectFET*SQ*; Footprint: Package_DirectFET:DirectFET_SQ; Datasheet: https://www.infineon.com/dgdl/irf6712spbf.pdf?fileId=5546d462533600a4015355ecf4331a7c
pins: 1 D, 2 G, 3 S

## IRF6713S
designator *  value IRF6713S  Reference: Q
ki_keywords: N-Channel MOSFET; ki_description: 22A Id, 25V Vds, 3mOhm Rds, N-Channel MOSFET, DirectFET SQ; ki_fp_filters: DirectFET*SQ*; Footprint: Package_DirectFET:DirectFET_SQ; Datasheet: https://www.infineon.com/dgdl/irf6713spbf.pdf?fileId=5546d462533600a4015355ecfc5c1a7e
pins: 1 D, 2 G, 3 S

## IRF6714M
designator *  value IRF6714M  Reference: Q
ki_keywords: N-Channel MOSFET; ki_description: 29A Id, 25V Vds, 2.1mOhm Rds, N-Channel MOSFET, DirectFET MX; ki_fp_filters: DirectFET*MX*; Footprint: Package_DirectFET:DirectFET_MX; Datasheet: https://www.infineon.com/dgdl/irf6714mpbf.pdf?fileId=5546d462533600a4015355ed04be1a80
pins: 1 D, 2 G, 3 S

## IRF6715M
designator *  value IRF6715M  Reference: Q
ki_keywords: N-Channel MOSFET; ki_description: 34A Id, 25V Vds, 1.6mOhm Rds, N-Channel MOSFET, DirectFET MX; ki_fp_filters: DirectFET*MX*; Footprint: Package_DirectFET:DirectFET_MX; Datasheet: https://www.infineon.com/dgdl/irf6715mpbf.pdf?fileId=5546d462533600a4015355ed0d221a82
pins: 1 D, 2 G, 3 S

## IRF6716M
designator *  value IRF6716M  Reference: Q
ki_keywords: N-Channel MOSFET; ki_description: 39A Id, 25V Vds, 1.6mOhm Rds, N-Channel MOSFET, DirectFET MX; ki_fp_filters: DirectFET*MX*; Footprint: Package_DirectFET:DirectFET_MX; Datasheet: https://www.infineon.com/dgdl/irf6716mpbf.pdf?fileId=5546d462533600a4015355ed15241a84
pins: 1 D, 2 G, 3 S

## IRF6717M
designator *  value IRF6717M  Reference: Q
ki_keywords: N-Channel MOSFET; ki_description: 38A Id, 25V Vds, 1.25mOhm Rds, N-Channel MOSFET, DirectFET MX; ki_fp_filters: DirectFET*MX*; Footprint: Package_DirectFET:DirectFET_MX; Datasheet: https://www.infineon.com/dgdl/irf6717mpbf.pdf?fileId=5546d462533600a4015355ed1d801a86
pins: 1 D, 2 G, 3 S

## IRF6718L2
designator *  value IRF6718L2  Reference: Q
ki_keywords: N-Channel MOSFET; ki_description: 61A Id, 25V Vds, 0.7mOhm Rds, N-Channel MOSFET, DirectFET L6; ki_fp_filters: DirectFET*L6*; Footprint: Package_DirectFET:DirectFET_L6; Datasheet: https://www.infineon.com/dgdl/irf6718l2pbf.pdf?fileId=5546d462533600a4015355ed25bd1a88
pins: 1 D, 2 G, 3 S

## IRF6721S
designator *  value IRF6721S  Reference: Q
ki_keywords: N-Channel MOSFET; ki_description: 14A Id, 30V Vds, 7.3mOhm Rds, N-Channel MOSFET, DirectFET SQ; ki_fp_filters: DirectFET*SQ*; Footprint: Package_DirectFET:DirectFET_SQ; Datasheet: https://www.infineon.com/dgdl/irf6721spbf.pdf?fileId=5546d462533600a4015355ed33b51a8c
pins: 1 D, 2 G, 3 S

## IRF6722M
designator *  value IRF6722M  Reference: Q
ki_keywords: N-Channel MOSFET; ki_description: 13A Id, 30V Vds, 7.7mOhm Rds, N-Channel MOSFET, DirectFET MP; ki_fp_filters: DirectFET*MP*; Footprint: Package_DirectFET:DirectFET_MP; Datasheet: https://www.infineon.com/dgdl/irf6722mpbf.pdf?fileId=5546d462533600a4015355ed3c661a8e
pins: 1 D, 2 G, 3 S

## IRF6724M
designator *  value IRF6724M  Reference: Q
ki_keywords: N-Channel MOSFET; ki_description: 27A Id, 30V Vds, 2.5mOhm Rds, N-Channel MOSFET, DirectFET MX; ki_fp_filters: DirectFET*MX*; Footprint: Package_DirectFET:DirectFET_MX; Datasheet: https://www.infineon.com/dgdl/irf6724mpbf.pdf?fileId=5546d462533600a4015355ed51a01a94
pins: 1 D, 2 G, 3 S

## IRF6725M
designator *  value IRF6725M  Reference: Q
ki_keywords: N-Channel MOSFET; ki_description: 28A Id, 30V Vds, 2.2mOhm Rds, N-Channel MOSFET, DirectFET MX; ki_fp_filters: DirectFET*MX*; Footprint: Package_DirectFET:DirectFET_MX; Datasheet: https://www.infineon.com/dgdl/irf6725mpbf.pdf?fileId=5546d462533600a4015355ed59ca1a96
pins: 1 D, 2 G, 3 S

## IRF6726M
designator *  value IRF6726M  Reference: Q
ki_keywords: N-Channel MOSFET; ki_description: 32A Id, 30V Vds, 1.7mOhm Rds, N-Channel MOSFET, DirectFET MT; ki_fp_filters: DirectFET*MT*; Footprint: Package_DirectFET:DirectFET_MT; Datasheet: https://www.infineon.com/dgdl/irf6726mpbf.pdf?fileId=5546d462533600a4015355ed61db1a98
pins: 1 D, 2 G, 3 S

## IRF6727M
designator *  value IRF6727M  Reference: Q
ki_keywords: N-Channel MOSFET; ki_description: 32A Id, 30V Vds, 1.7mOhm Rds, N-Channel MOSFET, DirectFET MX; ki_fp_filters: DirectFET*MX*; Footprint: Package_DirectFET:DirectFET_MX; Datasheet: https://www.infineon.com/dgdl/irf6727mpbf.pdf?fileId=5546d462533600a4015355ed6a331a9a
pins: 1 D, 2 G, 3 S

## IRF6728M
designator *  value IRF6728M  Reference: Q
ki_keywords: N-Channel MOSFET; ki_description: 23A Id, 30V Vds, 2.5mOhm Rds, N-Channel MOSFET, DirectFET MX; ki_fp_filters: DirectFET*MX*; Footprint: Package_DirectFET:DirectFET_MX; Datasheet: https://www.infineon.com/dgdl/irf6728mpbf.pdf?fileId=5546d462533600a4015355ed73701a9c
pins: 1 D, 2 G, 3 S

## IRF6775M
designator *  value IRF6775M  Reference: Q
ki_keywords: N-Channel MOSFET; ki_description: 28A Id, 150V Vds, 56mOhm Rds, N-Channel MOSFET, DirectFET MZ; ki_fp_filters: DirectFET*MZ*; Footprint: Package_DirectFET:DirectFET_MZ; Datasheet: https://www.infineon.com/dgdl/irf6775mpbf.pdf?fileId=5546d462533600a4015355ed84751aa0
pins: 1 D, 2 G, 3 S

## IRF6785
designator *  value IRF6785  Reference: Q
ki_keywords: N-Channel MOSFET; ki_description: 19A Id, 200V Vds, 100mOhm Rds, N-Channel MOSFET, DirectFET MZ; ki_fp_filters: DirectFET*MZ*; Footprint: Package_DirectFET:DirectFET_MZ; Datasheet: https://www.infineon.com/dgdl/irf6785mpbf.pdf?fileId=5546d462533600a4015355ed8cc31aa2
pins: 1 D, 2 G, 3 S

## IRF6795M
designator *  value IRF6795M  Reference: Q
ki_keywords: N-Channel MOSFET; ki_description: 32A Id, 25V Vds, 1.8mOhm Rds, N-Channel MOSFET, DirectFET MX; ki_fp_filters: DirectFET*MX*; Footprint: Package_DirectFET:DirectFET_MX; Datasheet: https://www.infineon.com/dgdl/irf6795mpbf.pdf?fileId=5546d462533600a4015355ed99cd1aa6
pins: 1 D, 2 G, 3 S

## IRF6797M
designator *  value IRF6797M  Reference: Q
ki_keywords: N-Channel MOSFET; ki_description: 36A Id, 25V Vds, 1.4mOhm Rds, N-Channel MOSFET, DirectFET MX; ki_fp_filters: DirectFET*MX*; Footprint: Package_DirectFET:DirectFET_MX; Datasheet: https://www.infineon.com/dgdl/irf6797mpbf.pdf?fileId=5546d462533600a4015355eda2091aa9
pins: 1 D, 2 G, 3 S

## IRF6798M
designator *  value IRF6798M  Reference: Q
ki_keywords: N-Channel MOSFET; ki_description: 37A Id, 25V Vds, 1.3mOhm Rds, N-Channel MOSFET, DirectFET MX; ki_fp_filters: DirectFET*MX*; Footprint: Package_DirectFET:DirectFET_MX; Datasheet: https://www.infineon.com/dgdl/irf6798mpbf.pdf?fileId=5546d462533600a4015355edaa4b1aab
pins: 1 D, 2 G, 3 S

## IRF6802SD
designator *  value IRF6802SD  Reference: Q
ki_keywords: Dual N-Channel MOSFET; ki_description: 16A Id, 25V Vds, 4.2mOhm Rds, Dual N-Channel MOSFET, DirectFET SA; ki_fp_filters: DirectFET*SA*; Footprint: Package_DirectFET:DirectFET_SA; Datasheet: https://www.infineon.com/dgdl/irf6802sdpbf.pdf?fileId=5546d462533600a4015355f0a3021ab2
part A pins: 1 D, 2 G1, 3 S1
part B pins: 1 D, 4 G2, 5 S2

## IRF6810S
designator *  value IRF6810S  Reference: Q
ki_keywords: N-Channel MOSFET; ki_description: 16A Id, 25V Vds, 5.2mOhm Rds, N-Channel MOSFET, DirectFET S1; ki_fp_filters: DirectFET*S1*; Footprint: Package_DirectFET:DirectFET_S1; Datasheet: https://www.infineon.com/dgdl/irf6810spbf.pdf?fileId=5546d462533600a4015355f0ab331ab4
pins: 1 D, 2 G, 3 S

## IRF6811S
designator *  value IRF6811S  Reference: Q
ki_keywords: N-Channel MOSFET; ki_description: 19A Id, 25V Vds, 3.7mOhm Rds, N-Channel MOSFET, DirectFET SQ; ki_fp_filters: DirectFET*SQ*; Footprint: Package_DirectFET:DirectFET_SQ; Datasheet: https://www.infineon.com/dgdl/irf6811spbf.pdf?fileId=5546d462533600a4015355f0b3661ab6
pins: 1 D, 2 G, 3 S

## IRF6892S
designator *  value IRF6892S  Reference: Q
ki_keywords: N-Channel MOSFET; ki_description: 28A Id, 25V Vds, 1.7mOhm Rds, N-Channel MOSFET, DirectFET S3C; ki_fp_filters: DirectFET*S3C*; Footprint: Package_DirectFET:DirectFET_S3C; Datasheet: https://www.infineon.com/dgdl/irf6892spbf.pdf?fileId=5546d462533600a4015355f0bb961ab8
pins: 1 D, 2 G, 3 S

## IRF6893M
designator *  value IRF6893M  Reference: Q
ki_keywords: N-Channel MOSFET; ki_description: 29A Id, 25V Vds, 1.6mOhm Rds, N-Channel MOSFET, DirectFET MX; ki_fp_filters: DirectFET*MX*; Footprint: Package_DirectFET:DirectFET_MX; Datasheet: https://www.infineon.com/dgdl/irf6893mpbf.pdf?fileId=5546d462533600a4015355f0c3de1aba
pins: 1 D, 2 G, 3 S

## IRF6894M
designator *  value IRF6894M  Reference: Q
ki_keywords: N-Channel MOSFET; ki_description: 37A Id, 25V Vds, 1.3mOhm Rds, N-Channel MOSFET, DirectFET MX; ki_fp_filters: DirectFET*MX*; Footprint: Package_DirectFET:DirectFET_MX; Datasheet: https://www.infineon.com/dgdl/Infineon-IRF6894M-DS-v02_00-EN.pdf?fileId=5546d462533600a4015355f0cc041abc
pins: 1 D, 2 G, 3 S

## IRF6898M
designator *  value IRF6898M  Reference: Q
ki_keywords: N-Channel MOSFET; ki_description: 35A Id, 25V Vds, 1.1mOhm Rds, N-Channel MOSFET, DirectFET MX; ki_fp_filters: DirectFET*MX*; Footprint: Package_DirectFET:DirectFET_MX; Datasheet: https://www.infineon.com/dgdl/irf6898mpbf.pdf?fileId=5546d462533600a4015355f0d4611abe
pins: 1 D, 2 G, 3 S

## IRF7171M
designator *  value IRF7171M  Reference: Q
ki_keywords: N-Channel MOSFET; ki_description: 93A Id, 100V Vds, 6.5mOhm Rds, N-Channel MOSFET, DirectFET MN; ki_fp_filters: DirectFET*MN*; Footprint: Package_DirectFET:DirectFET_MN; Datasheet: https://www.infineon.com/dgdl/irf7171mpbf.pdf?fileId=5546d462533600a4015355f1326f1ad6
pins: 1 D, 2 G, 3 S

## IRF7309IPBF
designator *  value IRF7309IPBF  Reference: Q
ki_keywords: Dual HEXFET N-Channel P-Channel MOSFET; ki_description: 3A Id, 30V Vds, Dual HEXFET MOSFET, SO-8; ki_fp_filters: SOIC*3.9x4.9mm*P1.27mm*; Footprint: Package_SO:SOIC-8_3.9x4.9mm_P1.27mm; Datasheet: http://www.irf.com/product-info/datasheets/data/irf7309ipbf.pdf
part A pins: 1 S, 2 G, 7 D, 8 D hidden
part B pins: 3 1, 4 G, 5 D, 6 D hidden

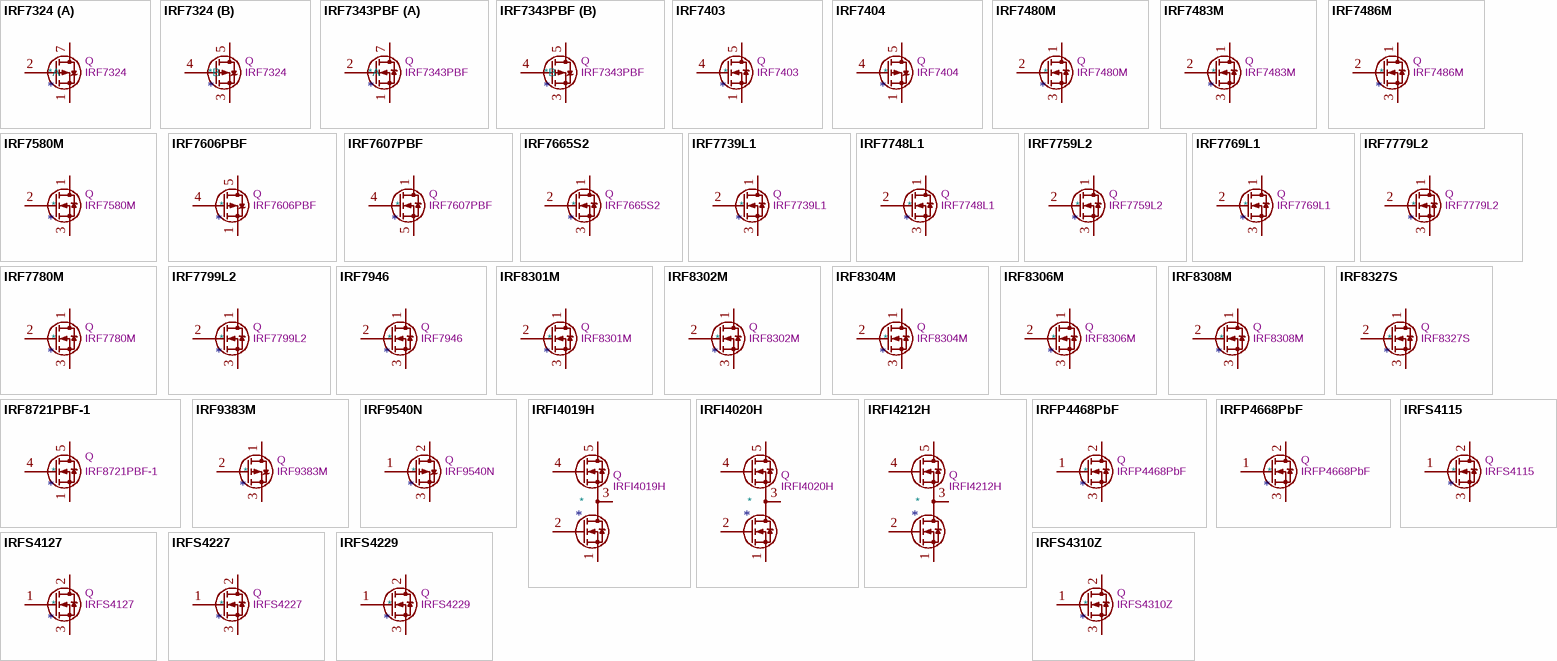
[diagram p10: symbols IRF7324 to IRFS4310Z]

## IRF7324
designator *  value IRF7324  Reference: Q
ki_keywords: Dual HEXFET P-Channel MOSFET; ki_description: 9A Id, -20V Vds, Dual HEXFET P-Channel MOSFET, SO-8; ki_fp_filters: SOIC*3.9x4.9mm*P1.27mm*; Footprint: Package_SO:SOIC-8_3.9x4.9mm_P1.27mm; Datasheet: http://www.infineon.com/dgdl/irf7324pbf.pdf?fileId=5546d462533600a4015355f5f0861b4b
part A pins: 1 S1, 2 G1, 7 D1, 8 D1 hidden
part B pins: 3 S2, 4 G2, 5 D2, 6 D2 hidden

## IRF7343PBF
designator *  value IRF7343PBF  Reference: Q
ki_keywords: Dual HEXFET N-Channel P-Channel MOSFET; ki_description: 4A Id, 55V Vds, Dual HEXFET MOSFET, SO-8; ki_fp_filters: SOIC*3.9x4.9mm*P1.27mm*; Footprint: Package_SO:SOIC-8_3.9x4.9mm_P1.27mm; Datasheet: http://www.irf.com/product-info/datasheets/data/irf7343ipbf.pdf
part A pins: 1 S, 2 G, 7 D, 8 D hidden
part B pins: 3 1, 4 G, 5 D, 6 D hidden

## IRF7403
designator *  value IRF7403  Reference: Q
ki_keywords: N-Channel MOSFET; ki_description: 9.7A Id, 30V Vds, N-Channel HEXFET Power MOSFET, SO-8; ki_fp_filters: SOIC*3.9x4.9mm*P1.27mm*; Footprint: Package_SO:SOIC-8_3.9x4.9mm_P1.27mm; Datasheet: https://www.infineon.com/dgdl/irf7403pbf.pdf?fileId=5546d462533600a4015355fa23541b9c
pins: 1 S, 2 S hidden, 3 S hidden, 4 G, 5 D, 6 D hidden, 7 D hidden, 8 D hidden

## IRF7404
designator *  value IRF7404  Reference: Q
ki_keywords: P-Channel MOSFET; ki_description: -6.7A Id, -20V Vds, P-Channel HEXFET Power MOSFET, SO-8; ki_fp_filters: SOIC*3.9x4.9mm*P1.27mm*; Footprint: Package_SO:SOIC-8_3.9x4.9mm_P1.27mm; Datasheet: http://www.infineon.com/dgdl/irf7404.pdf?fileId=5546d462533600a4015355fa2b5b1b9e
pins: 1 S, 2 S hidden, 3 S hidden, 4 G, 5 D, 6 D hidden, 7 D hidden, 8 D hidden

## IRF7480M
designator *  value IRF7480M  Reference: Q
ki_keywords: N-Channel MOSFET; ki_description: 330A Id, 40V Vds, 1.2mOhm Rds, N-Channel MOSFET, DirectFET ME; ki_fp_filters: DirectFET*ME*; Footprint: Package_DirectFET:DirectFET_ME; Datasheet: https://www.infineon.com/dgdl/Infineon-IRF7480M-DS-v01_02-EN.pdf?fileId=5546d462533600a4015355ff8fa41c30
pins: 1 D, 2 G, 3 S

## IRF7483M
designator *  value IRF7483M  Reference: Q
ki_keywords: N-Channel MOSFET; ki_description: 135A Id, 40V Vds, 2.3mOhm Rds, N-Channel MOSFET, DirectFET MF; ki_fp_filters: DirectFET*MF*; Footprint: Package_DirectFET:DirectFET_MF; Datasheet: https://www.infineon.com/dgdl/irf7483mpbf.pdf?fileId=5546d462533600a4015355ff98011c32
pins: 1 D, 2 G, 3 S

## IRF7486M
designator *  value IRF7486M  Reference: Q
ki_keywords: N-Channel MOSFET; ki_description: 209A Id, 40V Vds, 1.25mOhm Rds, N-Channel MOSFET, DirectFET ME; ki_fp_filters: DirectFET*ME*; Footprint: Package_DirectFET:DirectFET_ME; Datasheet: https://www.infineon.com/dgdl/Infineon-IRL7486M-DS-v01_00-EN.pdf?fileId=5546d46258fc0bc10158fec7a83a0629
pins: 1 D, 2 G, 3 S

## IRF7580M
designator *  value IRF7580M  Reference: Q
ki_keywords: N-Channel MOSFET; ki_description: 114A Id, 60V Vds, 3.6mOhm Rds, N-Channel MOSFET, DirectFET ME; ki_fp_filters: DirectFET*ME*; Footprint: Package_DirectFET:DirectFET_ME; Datasheet: https://www.infineon.com/dgdl/irf7580mpbf.pdf?fileId=5546d462533600a401535603855c1c72
pins: 1 D, 2 G, 3 S

## IRF7606PBF
designator *  value IRF7606PBF  Reference: Q
ki_keywords: HexFET Power MOSFET P-MOS; ki_description: -3.6A Id, -30V Vds, HexFET P-MOS Power MOSFET, Ronon 0.09R, Micro8; ki_fp_filters: MSOP*3x3mm*P0.65mm*; Footprint: Package_SO:MSOP-8_3x3mm_P0.65mm; Datasheet: http://www.irf.com/product-info/datasheets/data/irf7606pbf.pdf
pins: 1 S, 2 S hidden, 3 S hidden, 4 G, 5 D, 6 D hidden, 7 D hidden, 8 D hidden

## IRF7607PBF
designator *  value IRF7607PBF  Reference: Q
ki_keywords: HexFET Power MOSFET N-MOS; ki_description: 5.2A Id, 20V Vds, HexFET N-MOS Power MOSFET, Ronon 0.03R, Micro8; ki_fp_filters: MSOP*3x3mm*P0.65mm*; Footprint: Package_SO:MSOP-8_3x3mm_P0.65mm; Datasheet: http://www.irf.com/product-info/datasheets/data/irf7607pbf.pdf
pins: 1 S, 2 S hidden, 3 S hidden, 4 G, 5 D, 6 D hidden, 7 D hidden, 8 D hidden

## IRF7665S2
designator *  value IRF7665S2  Reference: Q
ki_keywords: N-Channel MOSFET; ki_description: 14.4A Id, 100V Vds, 62mOhm Rds, N-Channel MOSFET, DirectFET SB; ki_fp_filters: DirectFET*SB*; Footprint: Package_DirectFET:DirectFET_SB; Datasheet: https://www.infineon.com/dgdl/irf7665s2pbf.pdf?fileId=5546d462533600a401535603d3ba1c86
pins: 1 D, 2 G, 3 S

## IRF7739L1
designator *  value IRF7739L1  Reference: Q
ki_keywords: N-Channel MOSFET; ki_description: 270A Id, 40V Vds, 1.0mOhm Rds, N-Channel MOSFET, DirectFET L8; ki_fp_filters: DirectFET*L8*; Footprint: Package_DirectFET:DirectFET_L8; Datasheet: https://www.infineon.com/dgdl/irf7739l1pbf.pdf?fileId=5546d462533600a40153560423d91c9a
pins: 1 D, 2 G, 3 S

## IRF7748L1
designator *  value IRF7748L1  Reference: Q
ki_keywords: N-Channel MOSFET; ki_description: 104A Id, 60V Vds, 2.2mOhm Rds, N-Channel MOSFET, DirectFET L6; ki_fp_filters: DirectFET*L6*; Footprint: Package_DirectFET:DirectFET_L6; Datasheet: https://www.infineon.com/dgdl/irf7748l1pbf.pdf?fileId=5546d462533600a40153560434c11c9e
pins: 1 D, 2 G, 3 S

## IRF7759L2
designator *  value IRF7759L2  Reference: Q
ki_keywords: N-Channel MOSFET; ki_description: 160A Id, 75V Vds, 2.3mOhm Rds, N-Channel MOSFET, DirectFET L8; ki_fp_filters: DirectFET*L8*; Footprint: Package_DirectFET:DirectFET_L8; Datasheet: https://www.infineon.com/dgdl/irf7759l2pbf.pdf?fileId=5546d462533600a40153560478171cb0
pins: 1 D, 2 G, 3 S

## IRF7769L1
designator *  value IRF7769L1  Reference: Q
ki_keywords: N-Channel MOSFET; ki_description: 88A Id, 100V Vds, 3.5mOhm Rds, N-Channel MOSFET, DirectFET L8; ki_fp_filters: DirectFET*L8*; Footprint: Package_DirectFET:DirectFET_L8; Datasheet: https://www.infineon.com/dgdl/Infineon-IRF7769L1-DS-v02_00-EN.pdf?fileId=5546d462533600a4015356079bd91cb4
pins: 1 D, 2 G, 3 S

## IRF7779L2
designator *  value IRF7779L2  Reference: Q
ki_keywords: N-Channel MOSFET; ki_description: 67A Id, 150V Vds, 11mOhm Rds, N-Channel MOSFET, DirectFET L8; ki_fp_filters: DirectFET*L8*; Footprint: Package_DirectFET:DirectFET_L8; Datasheet: https://www.infineon.com/dgdl/irf7779l2pbf.pdf?fileId=5546d462533600a401535607ac011cb8
pins: 1 D, 2 G, 3 S

## IRF7780M
designator *  value IRF7780M  Reference: Q
ki_keywords: N-Channel MOSFET; ki_description: 89A Id, 75V Vds, 5.7mOhm Rds, N-Channel MOSFET, DirectFET ME; ki_fp_filters: DirectFET*ME*; Footprint: Package_DirectFET:DirectFET_ME; Datasheet: https://www.infineon.com/dgdl/irf7780mpbf.pdf?fileId=5546d462533600a401535607b41f1cba
pins: 1 D, 2 G, 3 S

## IRF7799L2
designator *  value IRF7799L2  Reference: Q
ki_keywords: N-Channel MOSFET; ki_description: 35A Id, 250V Vds, 38mOhm Rds, N-Channel MOSFET, DirectFET L8; ki_fp_filters: DirectFET*L8*; Footprint: Package_DirectFET:DirectFET_L8; Datasheet: https://www.infineon.com/dgdl/irf7799l2pbf.pdf?fileId=5546d462533600a401535607bc471cbc
pins: 1 D, 2 G, 3 S

## IRF7946
designator *  value IRF7946  Reference: Q
ki_keywords: N-Channel MOSFET; ki_description: 198A Id, 40V Vds, 1.4mOhm Rds, N-Channel MOSFET, DirectFET MX; ki_fp_filters: DirectFET*MX*; Footprint: Package_DirectFET:DirectFET_MX; Datasheet: https://www.infineon.com/dgdl/irf7946pbf.pdf?fileId=5546d462533600a40153560cc0a41d43
pins: 1 D, 2 G, 3 S